# Altium schematic symbol library TemperatureController.SCHLIB: 83 symbols
Pins are listed as number, name and electrical type; pins without a type are passive.

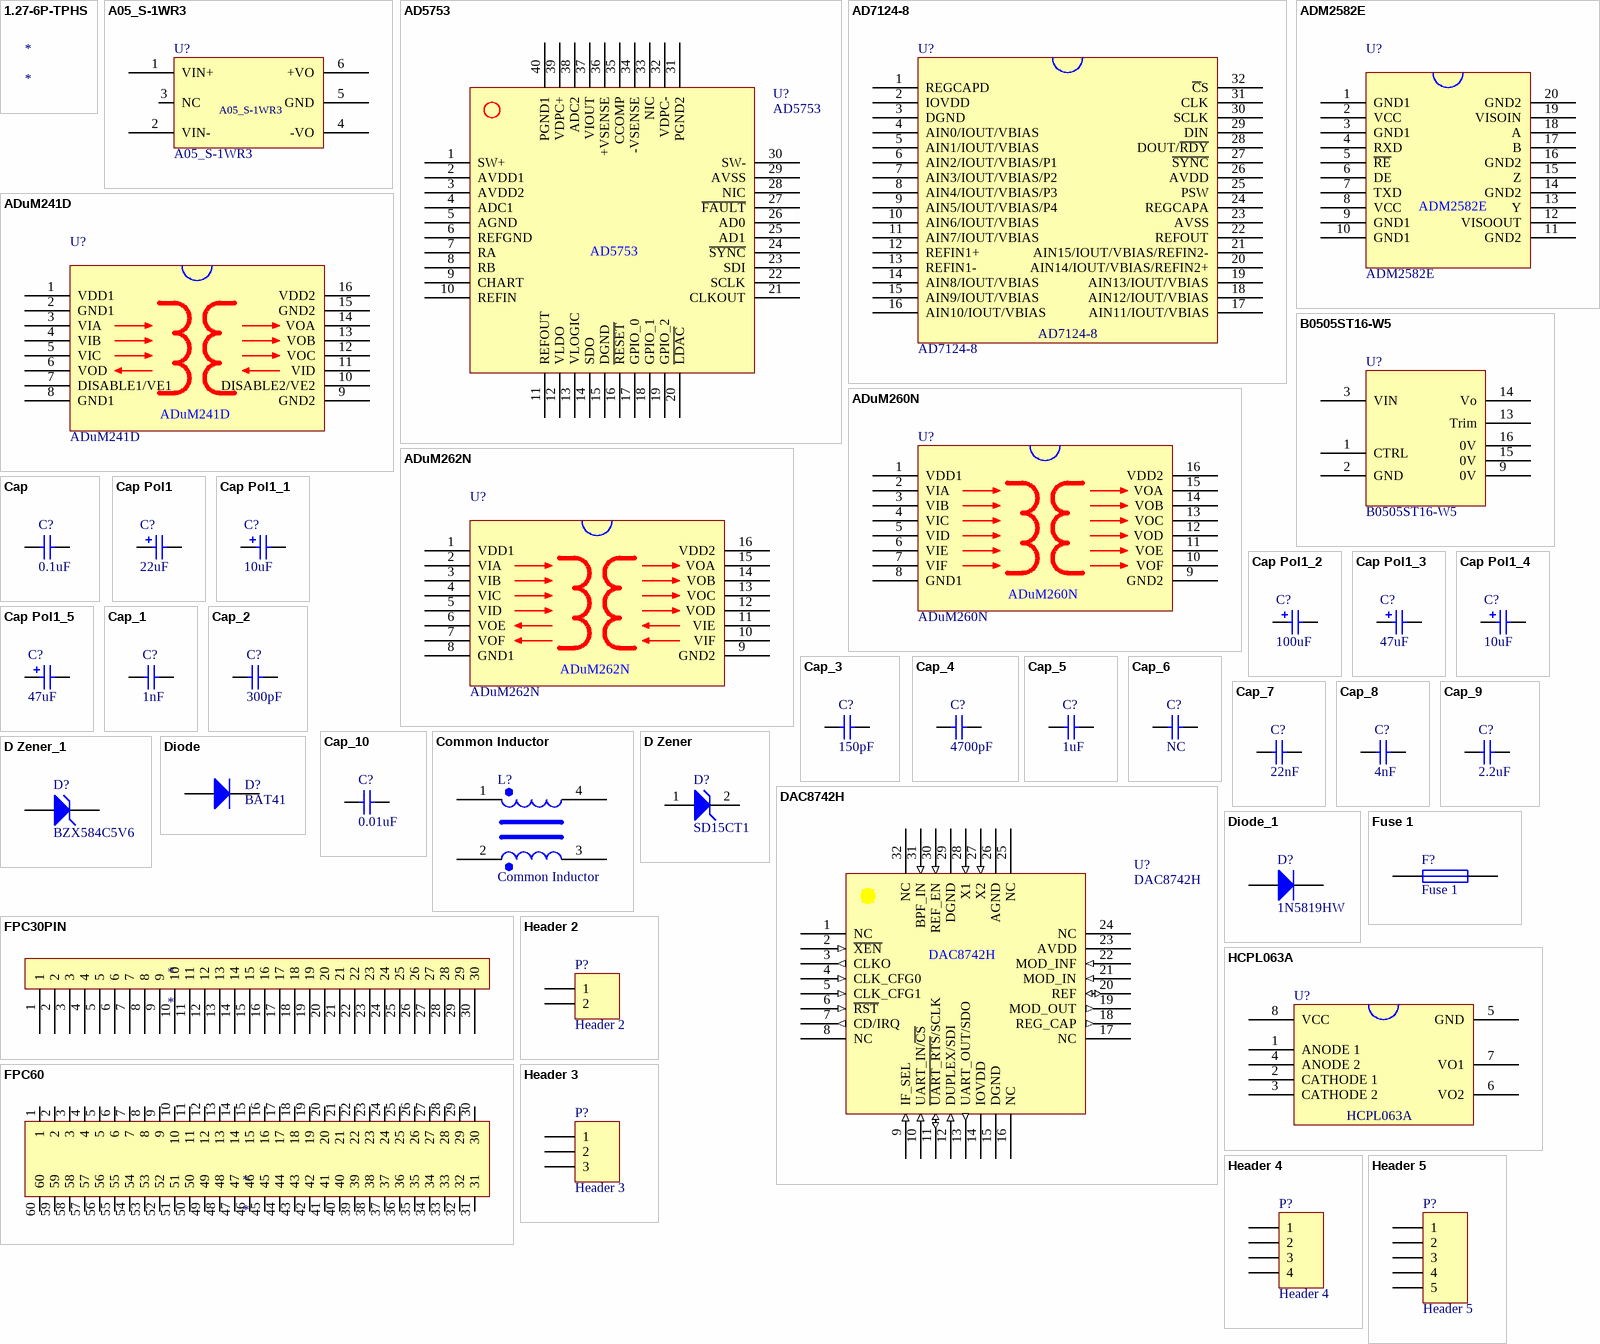
[diagram p0: symbols 1.27-6P-TPHS to Header 5]

## 1.27-6P-TPHS
designator *

## A05_S-1WR3
designator U?
footprint A_S-1WR3
pins: 1 VIN+, 2 VIN-, 3 NC, 4 -VO, 5 GND, 6 +VO

## AD5753
designator U?
footprint CP-40-15(QFN40) (QFN, 40-Leads, Body 6.00x6.00mm, Pitch 0.50mm, Thermal Pad 4.60x4.60mm, IPC Low Density)
pins: 1 SW+, 2 AVDD1, 3 AVDD2, 4 ADC1, 5 AGND, 6 REFGND, 7 RA, 8 RB, 9 CHART, 10 REFIN, 11 REFOUT, 12 VLDO, 13 VLOGIC, 14 SDO, 15 DGND, 16 ~{RESET}, 17 GPIO_0, 18 GPIO_1, 19 GPIO_2, 20 ~{LDAC}, 21 CLKOUT, 22 SCLK, 23 SDI, 24 ~{SYNC}, 25 AD1, 26 AD0, 27 ~{FAULT}, 28 NIC, 29 AVSS, 30 SW-, 31 PGND2, 32 VDPC-, 33 NIC, 34 -VSENSE, 35 CCOMP, 36 +VSENSE, 37 VIOUT, 38 ADC2, 39 VDPC+, 40 PGND1

## AD7124-8
designator U?
footprint TI-RHB32-3150X3150TP_V (QFN, 32-Leads, Body 5x5mm, Pitch 0.5mm, Thermal Pad 3.15x3.15mm)
pins: 1 REGCAPD, 2 IOVDD, 3 DGND, 4 AIN0/IOUT/VBIAS, 5 AIN1/IOUT/VBIAS, 6 AIN2/IOUT/VBIAS/P1, 7 AIN3/IOUT/VBIAS/P2, 8 AIN4/IOUT/VBIAS/P3, 9 AIN5/IOUT/VBIAS/P4, 10 AIN6/IOUT/VBIAS, 11 AIN7/IOUT/VBIAS, 12 REFIN1+, 13 REFIN1-, 14 AIN8/IOUT/VBIAS, 15 AIN9/IOUT/VBIAS, 16 AIN10/IOUT/VBIAS, 17 AIN11/IOUT/VBIAS, 18 AIN12/IOUT/VBIAS, 19 AIN13/IOUT/VBIAS, 20 AIN14/IOUT/VBIAS/REFIN2+, 21 AIN15/IOUT/VBIAS/REFIN2-, 22 REFOUT, 23 AVSS, 24 REGCAPA, 25 PSW, 26 AVDD, 27 ~{SYNC}, 28 DOUT/~{RDY}, 29 DIN, 30 SCLK, 31 CLK, 32 ~{C}S

## ADM2582E
designator U?
footprint SOIC-20-W
pins: 1 GND1, 2 VCC, 3 GND1, 4 RXD, 5 ~{RE}, 6 DE, 7 TXD, 8 VCC, 9 GND1, 10 GND1, 11 GND2, 12 VISOOUT, 13 Y, 14 GND2, 15 Z, 16 GND2, 17 B, 18 A, 19 VISOIN, 20 GND2

## ADuM241D
designator U?
footprint SOIC-16(RI-16-2)
pins: 1 VDD1, 2 GND1, 3 VIA, 4 VIB, 5 VIC, 6 VOD, 7 DISABLE1/VE1, 8 GND1, 9 GND2, 10 DISABLE2/VE2, 11 VID, 12 VOC, 13 VOB, 14 VOA, 15 GND2, 16 VDD2

## ADuM260N
designator U?
footprint SOIC-16(RI-16-2)
pins: 1 VDD1, 2 VIA, 3 VIB, 4 VIC, 5 VID, 6 VIE, 7 VIF, 8 GND1, 9 GND2, 10 VOF, 11 VOE, 12 VOD, 13 VOC, 14 VOB, 15 VOA, 16 VDD2

## ADuM262N
designator U?
footprint SOIC-16(RI-16-2)
pins: 1 VDD1, 2 VIA, 3 VIB, 4 VIC, 5 VID, 6 VOE, 7 VOF, 8 GND1, 9 GND2, 10 VIF, 11 VIE, 12 VOD, 13 VOC, 14 VOB, 15 VOA, 16 VDD2

## B0505ST16-W5
designator U?
footprint SOP16-1.27(V2) (金升阳2)
pins: 1 CTRL, 2 GND, 3 VIN, 9 0V, 13 Trim, 14 Vo, 15 0V, 16 0V

## Cap
designator C?, comment value 0.1uF  (hidden comment: CC0805MRX7R9BB104)
Capacitor
simulation model CAP (Capacitor)
signal-integrity model Cap
footprint 0805c
pins: 1, 2

## Cap Pol1
designator C?, comment value 22uF  (hidden comment: T494B226M006AHAUTO)
Polarized Capacitor (Radial); Published: 8-Jun-2000; LatestRevisionDate: 17-Jul-2002; LatestRevisionNote: Re-released for DXP Platform.; PackageReference: RB7.6-15; Publisher: Altium Limited; PackageDescription: Polarized Capacitor (Radial); 2 Leads
simulation model CAP (Capacitor)
signal-integrity model Cap Pol
footprint CB
pins: 1, 2
1 alternate drawing of the same symbol

## Cap Pol1_1
designator C?, comment value 10uF  (hidden comment: ECR1HQG100M-063007)
Polarized Capacitor (Radial); Published: 8-Jun-2000; LatestRevisionDate: 17-Jul-2002; LatestRevisionNote: Re-released for DXP Platform.; PackageReference: RB7.6-15; Publisher: Altium Limited; PackageDescription: Polarized Capacitor (Radial); 2 Leads
simulation model CAP (Capacitor)
signal-integrity model Cap Pol
footprint CE-6.3*11.5(-)
pins: 1, 2
1 alternate drawing of the same symbol

## Cap Pol1_2
designator C?, comment value 100uF  (hidden comment: T494B107M006AHAUTO)
Polarized Capacitor (Radial); Published: 8-Jun-2000; LatestRevisionDate: 17-Jul-2002; LatestRevisionNote: Re-released for DXP Platform.; PackageReference: RB7.6-15; Publisher: Altium Limited; PackageDescription: Polarized Capacitor (Radial); 2 Leads
simulation model CAP (Capacitor)
signal-integrity model Cap Pol
footprint CE-6.3*11.5(-)
pins: 1, 2
1 alternate drawing of the same symbol

## Cap Pol1_3
designator C?, comment value 47uF  (hidden comment: T494B476M010AHAUTO)
Polarized Capacitor (Radial); Published: 8-Jun-2000; LatestRevisionDate: 17-Jul-2002; LatestRevisionNote: Re-released for DXP Platform.; PackageReference: RB7.6-15; Publisher: Altium Limited; PackageDescription: Polarized Capacitor (Radial); 2 Leads
simulation model CAP (Capacitor)
signal-integrity model Cap Pol
footprint CE-5*11(-)
pins: 1, 2
1 alternate drawing of the same symbol

## Cap Pol1_4
designator C?, comment value 10uF  (hidden comment: T494B106M006AHAUTO)
Polarized Capacitor (Radial); Published: 8-Jun-2000; LatestRevisionDate: 17-Jul-2002; LatestRevisionNote: Re-released for DXP Platform.; PackageReference: RB7.6-15; Publisher: Altium Limited; PackageDescription: Polarized Capacitor (Radial); 2 Leads
simulation model CAP (Capacitor)
signal-integrity model Cap Pol
footprint 0805c
pins: 1, 2
1 alternate drawing of the same symbol

## Cap Pol1_5
designator C?, comment value 47uF  (hidden comment: T494B476K025ATAUTO)
Polarized Capacitor (Radial); Published: 8-Jun-2000; LatestRevisionDate: 17-Jul-2002; LatestRevisionNote: Re-released for DXP Platform.; PackageReference: RB7.6-15; Publisher: Altium Limited; PackageDescription: Polarized Capacitor (Radial); 2 Leads
simulation model CAP (Capacitor)
signal-integrity model Cap Pol
footprint CB
pins: 1, 2
1 alternate drawing of the same symbol

## Cap_1
designator C?  value 1nF
Capacitor; Published: 8-Jun-2000; LatestRevisionDate: 17-Jul-2002; LatestRevisionNote: Re-released for DXP Platform.; PackageReference: RAD-0.3; Publisher: Altium Limited; PackageDescription: Radial Cap, Thru-Hole; 2 Leads; 0.3 in Pin Spacing
simulation model CAP (Capacitor)
signal-integrity model Cap
footprint 0805c
pins: 1, 2

## Cap_2
designator C?  value 300pF
Capacitor; Published: 8-Jun-2000; LatestRevisionDate: 17-Jul-2002; LatestRevisionNote: Re-released for DXP Platform.; PackageReference: RAD-0.3; Publisher: Altium Limited; PackageDescription: Radial Cap, Thru-Hole; 2 Leads; 0.3 in Pin Spacing
simulation model CAP (Capacitor)
signal-integrity model Cap
footprint 0805c
pins: 1, 2

## Cap_3
designator C?  value 150pF
Capacitor; Published: 8-Jun-2000; LatestRevisionDate: 17-Jul-2002; LatestRevisionNote: Re-released for DXP Platform.; PackageReference: RAD-0.3; Publisher: Altium Limited; PackageDescription: Radial Cap, Thru-Hole; 2 Leads; 0.3 in Pin Spacing
simulation model CAP (Capacitor)
signal-integrity model Cap
footprint 0805c
pins: 1, 2

## Cap_4
designator C?  value 4700pF
Capacitor; Published: 8-Jun-2000; LatestRevisionDate: 17-Jul-2002; LatestRevisionNote: Re-released for DXP Platform.; PackageReference: RAD-0.3; Publisher: Altium Limited; PackageDescription: Radial Cap, Thru-Hole; 2 Leads; 0.3 in Pin Spacing
simulation model CAP (Capacitor)
signal-integrity model Cap
footprint 0805c
pins: 1, 2

## Cap_5
designator C?  value 1uF
Capacitor; Published: 8-Jun-2000; LatestRevisionDate: 17-Jul-2002; LatestRevisionNote: Re-released for DXP Platform.; PackageReference: RAD-0.3; Publisher: Altium Limited; PackageDescription: Radial Cap, Thru-Hole; 2 Leads; 0.3 in Pin Spacing
simulation model CAP (Capacitor)
signal-integrity model Cap
footprint 0805c
pins: 1, 2

## Cap_6
designator C?  value NC
Capacitor; Published: 8-Jun-2000; LatestRevisionDate: 17-Jul-2002; LatestRevisionNote: Re-released for DXP Platform.; PackageReference: RAD-0.3; Publisher: Altium Limited; PackageDescription: Radial Cap, Thru-Hole; 2 Leads; 0.3 in Pin Spacing
simulation model CAP (Capacitor)
signal-integrity model Cap
footprint 0805c
pins: 1, 2

## Cap_7
designator C?  value 22nF
Capacitor; Published: 8-Jun-2000; LatestRevisionDate: 17-Jul-2002; LatestRevisionNote: Re-released for DXP Platform.; PackageReference: RAD-0.3; Publisher: Altium Limited; PackageDescription: Radial Cap, Thru-Hole; 2 Leads; 0.3 in Pin Spacing
simulation model CAP (Capacitor)
signal-integrity model Cap
footprint 0805c
pins: 1, 2

## Cap_8
designator C?  value 4nF
Capacitor; Published: 8-Jun-2000; LatestRevisionDate: 17-Jul-2002; LatestRevisionNote: Re-released for DXP Platform.; PackageReference: RAD-0.3; Publisher: Altium Limited; PackageDescription: Radial Cap, Thru-Hole; 2 Leads; 0.3 in Pin Spacing
simulation model CAP (Capacitor)
signal-integrity model Cap
footprint 0805c
pins: 1, 2

## Cap_9
designator C?  value 2.2uF
Capacitor; Published: 8-Jun-2000; LatestRevisionDate: 17-Jul-2002; LatestRevisionNote: Re-released for DXP Platform.; PackageReference: RAD-0.3; Publisher: Altium Limited; PackageDescription: Radial Cap, Thru-Hole; 2 Leads; 0.3 in Pin Spacing
simulation model CAP (Capacitor)
signal-integrity model Cap
footprint 0805c
pins: 1, 2

## Cap_10
designator C?, comment value 0.01uF  (hidden comment: CC0805MRX7R9BB103)
Capacitor; Published: 8-Jun-2000; LatestRevisionDate: 17-Jul-2002; LatestRevisionNote: Re-released for DXP Platform.; PackageReference: RAD-0.3; Publisher: Altium Limited; PackageDescription: Radial Cap, Thru-Hole; 2 Leads; 0.3 in Pin Spacing
simulation model CAP (Capacitor)
signal-integrity model Cap
footprint 0805c
pins: 1, 2

## Common Inductor
designator L?
pins: 1, 2, 3, 4

## D Zener
designator D?, comment SD15CT1
Zener Diode; Published: 8-Jun-2000; LatestRevisionDate: 17-Jul-2002; LatestRevisionNote: Re-released for DXP Platform.; PackageReference: DIODE-0.7; Publisher: Altium Limited; PackageDescription: Diode, Thru-Hole; 2 Leads; 0.7 in Pin Spacing
simulation model ZENER (Diode)
signal-integrity model D Zener
footprint sod323
pins: 1 A, 2 K

## D Zener_1
designator D?, comment BZX584C5V6
Zener Diode; Published: 8-Jun-2000; LatestRevisionDate: 17-Jul-2002; LatestRevisionNote: Re-released for DXP Platform.; PackageReference: DIODE-0.7; Publisher: Altium Limited; PackageDescription: Diode, Thru-Hole; 2 Leads; 0.7 in Pin Spacing
footprint DIODE-0.7 (Diode, Thru-Hole; 2 Leads; 0.7 in Pin Spacing)
simulation model ZENER (Diode)
signal-integrity model D Zener
pins: 1 A, 2 K

## DAC8742H
designator U?
HART and FOUNDATION Fieldbus / PROFIBUS PA Modem
footprint S-PQFP-G32 (Footprint not found)
pins: 1 NC, 2 ~{XEN} (in), 3 CLKO (out), 4 CLK_CFG0 (in), 5 CLK_CFG1 (in), 6 ~{RST} (in), 7 CD/IRQ (out), 8 NC, 9 IF_SEL (in), 10 UART_IN/~{CS} (in), 11 ~{UART_RTS}/SCLK (io), 12 DUPLEX/SDI (in), 13 UART_OUT/SDO (out), 14 IOVDD (power), 15 DGND (power), 16 NC, 17 NC, 18 REG_CAP (out), 19 MOD_OUT (out), 20 REF (io), 21 MOD_IN (in), 22 MOD_INF (in), 23 AVDD (power), 24 NC, 25 NC, 26 AGND (power), 27 X2 (in), 28 X1 (in), 29 DGND (power), 30 REF_EN (in), 31 BPF_IN (in), 32 NC

## Diode
designator D?, comment BAT41
Default Diode; Published: 8-Jun-2000; LatestRevisionDate: 17-Jul-2002; LatestRevisionNote: Re-released for DXP Platform.; PackageVersion: Sep-1996; PackageReference: SMC; Publisher: Altium Limited; PackageDescription: DO-214-AB/SMC; 2 C-Bend Leads; Body 7.9 x 5.9 mm, inc. leads (LxW); Code_JEDEC: DO-214-AB
simulation model DIODE (Diode)
signal-integrity model Diode
footprint sod123
pins: 1 A, 2 K

## Diode_1
designator D?, comment 1N5819HW
Default Diode; Published: 8-Jun-2000; LatestRevisionDate: 17-Jul-2002; LatestRevisionNote: Re-released for DXP Platform.; PackageVersion: Sep-1996; PackageReference: SMC; Publisher: Altium Limited; PackageDescription: DO-214-AB/SMC; 2 C-Bend Leads; Body 7.9 x 5.9 mm, inc. leads (LxW); Code_JEDEC: DO-214-AB
simulation model DIODE (Diode)
signal-integrity model Diode
footprint sod123
pins: 1 A, 2 K

## FPC30PIN
designator *
pins: 1, 2, 3, 4, 5, 6, 7, 8, 9, 10, 11, 12, 13, 14, 15, 16, 17, 18, 19, 20, 21, 22, 23, 24, 25, 26, 27, 28, 29, 30

## FPC60
designator *
footprint FPC60
pins: 1, 2, 3, 4, 5, 6, 7, 8, 9, 10, 11, 12, 13, 14, 15, 16, 17, 18, 19, 20, 21, 22, 23, 24, 25, 26, 27, 28, 29, 30, 31, 32, 33, 34, 35, 36, 37, 38, 39, 40, 41, 42, 43, 44, 45, 46, 47, 48, 49, 50, 51, 52, 53, 54, 55, 56, 57, 58, 59, 60

## Fuse 1
designator F?
Fuse; Published: 8-Jun-2000; LatestRevisionDate: 17-Jul-2002; LatestRevisionNote: Re-released for DXP Platform.; PackageReference: PIN-W2/E2.8; Publisher: Altium Limited; PackageDescription: Thru-Hole; 2 Leads
simulation model FUSE (Spice Subcircuit)
footprint 0805r
pins: 1, 2

## HCPL063A
designator U?  (value not drawn)
footprint SOIC-8
pins: 1 ANODE 1, 2 CATHODE 1, 3 CATHODE 2, 4 ANODE 2, 5 GND, 6 VO2, 7 VO1, 8 VCC

## Header 2
designator P?
Header, 2-Pin; LatestRevisionDate: 17-Jul-2002; LatestRevisionNote: Re-released for DXP Platform.; Publisher: Altium Limited
footprint HDR1X2 (Connector; Header; 2 Position)
signal-integrity model Connector
pins: 1, 2

## Header 3
designator P?
Header, 3-Pin; LatestRevisionDate: 17-Jul-2002; LatestRevisionNote: Re-released for DXP Platform.; Publisher: Altium Limited
footprint HDR1X3 (Connector; Header; 3 Position)
signal-integrity model Connector
pins: 1, 2, 3

## Header 4
designator P?
Header, 4-Pin; LatestRevisionDate: 17-Jul-2002; LatestRevisionNote: Re-released for DXP Platform.; Publisher: Altium Limited
footprint HDR1X4 (Connector; Header; 4 Position)
signal-integrity model Connector
pins: 1, 2, 3, 4

## Header 5
designator P?
Header, 5-Pin; LatestRevisionDate: 17-Jul-2002; LatestRevisionNote: Re-released for DXP Platform.; Publisher: Altium Limited
footprint HDR1X5 (Connector; Header; 5 Position)
signal-integrity model Connector
pins: 1, 2, 3, 4, 5

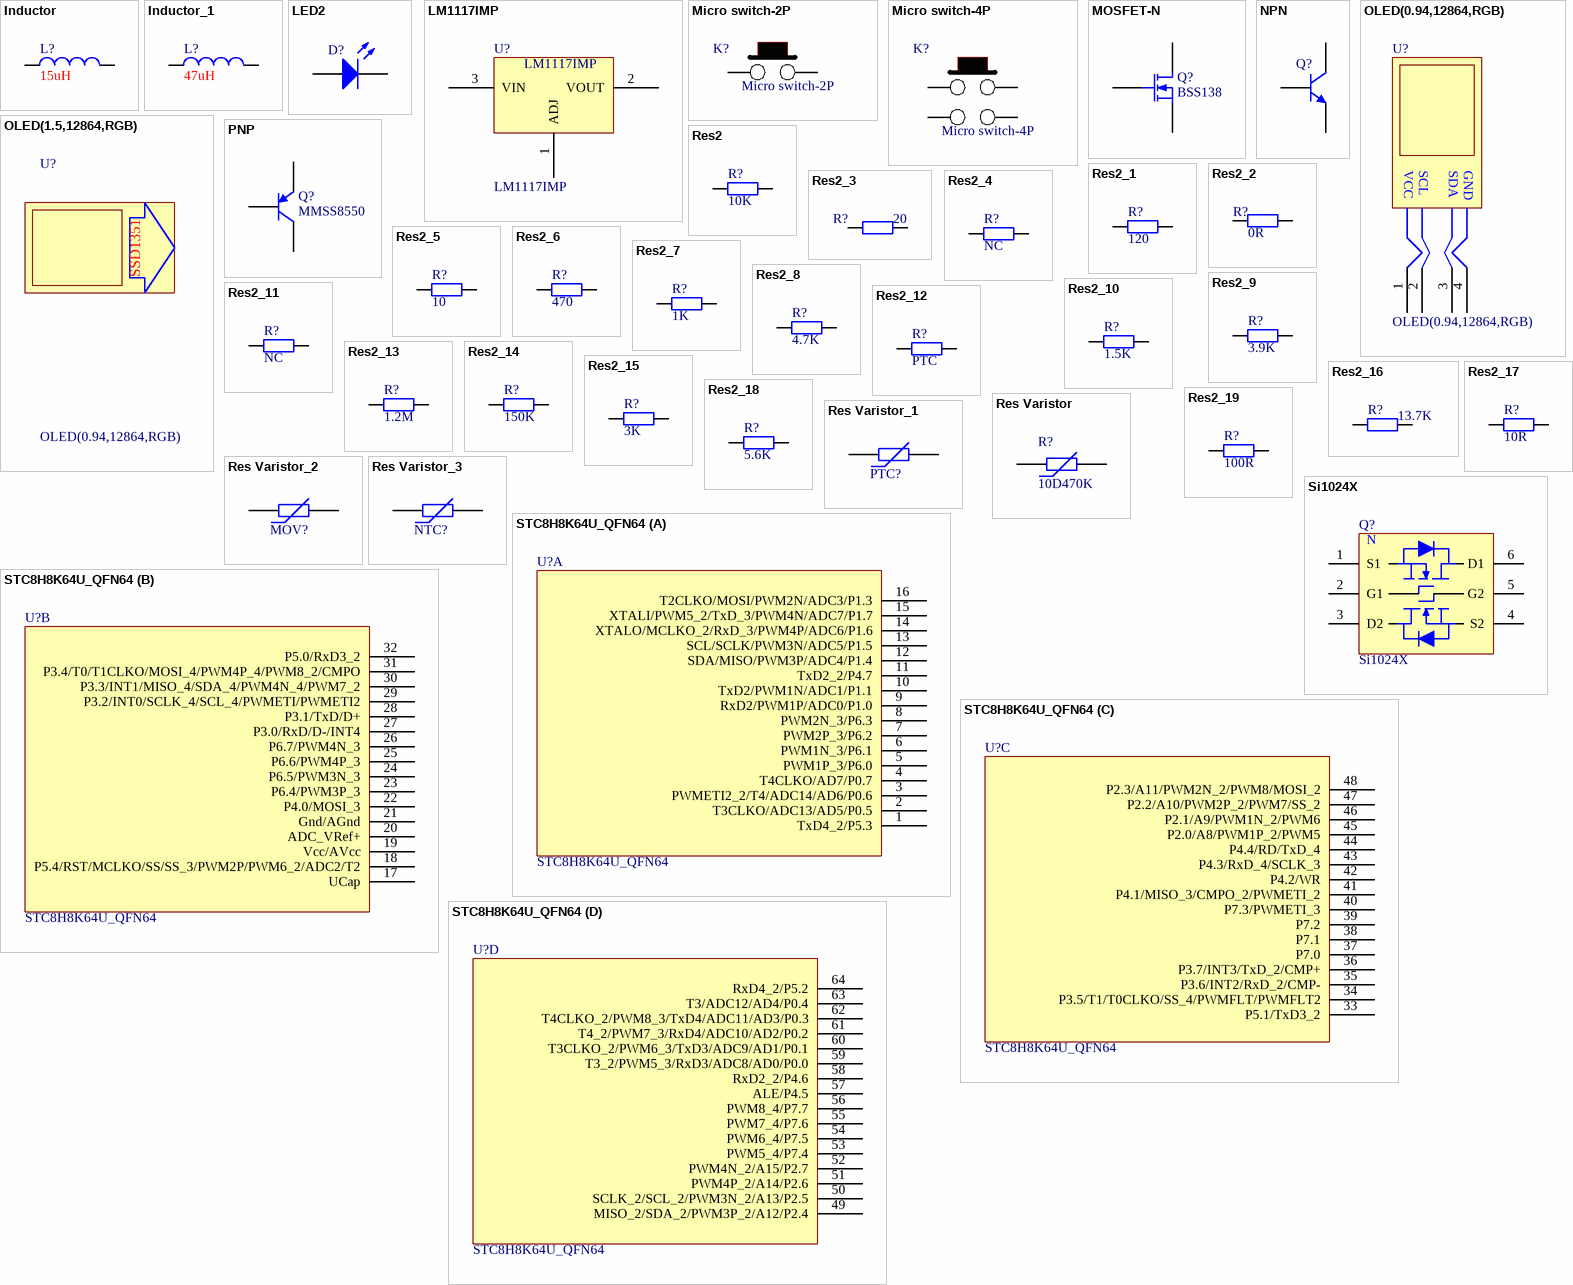
[diagram p1: symbols Inductor to STC8H8K64U_QFN64]

## Inductor
designator L?, comment value 15uH  (hidden comment: VLS4012HBX-150M)
simulation model INDUCTOR (Inductor)
signal-integrity model Inductor
footprint VSL4012
pins: 1, 2

## Inductor_1
designator L?, comment value 47uH  (hidden comment: VLS4012HBX-150M)
simulation model INDUCTOR (Inductor)
signal-integrity model Inductor
footprint 0805r
pins: 1, 2

## LED2
designator D?, comment 150080GS75000  (value not drawn)
Typical RED, GREEN, YELLOW, AMBER GaAs LED; Published: 8-Jun-2000; LatestRevisionDate: 17-Jul-2002; LatestRevisionNote: Re-released for DXP Platform.; PackageVersion: Feb-2002; PackageReference: 3.2X1.6X1.1; Publisher: Altium Limited; PackageDescription: SM LED; 2 Flat Leads
simulation model LED2 (Diode)
footprint LEDΦ3.0
pins: 1 A, 2 K

## LM1117IMP
designator U?
pins: 1 ADJ, 2 VOUT, 3 VIN, 4 TAB hidden

## Micro switch-2P
designator K?
pins: 1, 2

## Micro switch-4P
designator K?
pins: 1, 2, 3, 4

## MOSFET-N
designator Q?, comment BSS138
N-Channel MOSFET; Published: 8-Jun-2000; LatestRevisionDate: 17-Jul-2002; LatestRevisionNote: Re-released for DXP Platform.; PackageVersion: 1995/1996; PackageReference: E3; Publisher: Altium Limited; PackageDescription: TO, Flat Index; 3 In-Line, Axial Leads; Body Dia. 4.6mm; Lead Dia. 0.5 mm (max)
footprint E3 (TO, Flat Index; 3 In-Line, Axial Leads; Body Dia. 4.6mm; Lead Dia. 0.5 mm (max))
simulation model NMOS (MOSFET-N)
pins: 1 D, 2 G, 3 S

## NPN
designator Q?, comment MMSS8050  (value not drawn)
NPN Bipolar Transistor; Published: 8-Jun-2000; LatestRevisionDate: 17-Jul-2002; LatestRevisionNote: Re-released for DXP Platform.; PackageReference: TO-226-AA; Publisher: Altium Limited; PackageDescription: TO, Flat Index; 3 In-Line, Axial Leads; Body Dia. 4.8mm; Leads 0.55 x 0.51 mm (max); Code_JEDEC: TO-226-AA
simulation model NPN
signal-integrity model NPN
footprint SOT-23
pins: 1 C, 2 B, 3 E

## OLED(0.94,12864,RGB)
designator U?
pins: 1 VCC, 2 SCL, 3 SDA, 4 GND

## OLED(1.5,12864,RGB)
designator U?, comment OLED(0.94,12864,RGB)
text: SSD1351

## PNP
designator Q?, comment MMSS8550
PNP Bipolar Transistor; Published: 8-Jun-2000; LatestRevisionDate: 29-May-2009; LatestRevisionNote: IPC-7351 Footprint Added.; PackageVersion: Aug-1999; PackageReference: SOT-23B; Publisher: Altium Limited; PackageDescription: 3-Pin SOT-23 Package 0.95 mm Pitch, 2.4 mm Lead Span
footprint SOT-23B_L (SOT23, 3-Leads, Body 2.9x1.3mm, Pitch 0.95mm, Lead Span 2.4mm, IPC High Density)
footprint SOT-23B_M (SOT23, 3-Leads, Body 2.9x1.3mm, Pitch 0.95mm, Lead Span 2.4mm, IPC Low Density)
simulation model PNP
signal-integrity model PNP
footprint SOT-23-BJT
pins: 1 C, 2 B, 3 E

## Res2
designator R?, comment value 10K  (hidden comment: RC0805JR-0710KL)
Resistor; Published: 8-Jun-2000; LatestRevisionDate: 17-Jul-2002; LatestRevisionNote: Re-released for DXP Platform.; PackageReference: AXIAL-0.4; Publisher: Altium Limited; PackageDescription: Axial Device, Thru-Hole; 2 Leads; 0.4 in Pin Spacing
simulation model RESISTOR (Resistor)
signal-integrity model Res
footprint 0805R
pins: 1, 2

## Res2_1
designator R?, comment value 120  (hidden comment: RC0805JR-07120RL)
Resistor; Published: 8-Jun-2000; LatestRevisionDate: 17-Jul-2002; LatestRevisionNote: Re-released for DXP Platform.; PackageReference: AXIAL-0.4; Publisher: Altium Limited; PackageDescription: Axial Device, Thru-Hole; 2 Leads; 0.4 in Pin Spacing
simulation model RESISTOR (Resistor)
signal-integrity model Res
footprint 0805R
pins: 1, 2

## Res2_2
designator R?, comment value 0R  (hidden comment: RC0805JR-000KL)
Resistor; Published: 8-Jun-2000; LatestRevisionDate: 17-Jul-2002; LatestRevisionNote: Re-released for DXP Platform.; PackageReference: AXIAL-0.4; Publisher: Altium Limited; PackageDescription: Axial Device, Thru-Hole; 2 Leads; 0.4 in Pin Spacing
simulation model RESISTOR (Resistor)
signal-integrity model Res
footprint 0805R
pins: 1, 2

## Res2_3
designator R?, comment value 20  (hidden comment: RC0805JR-0720RL)
Resistor; Published: 8-Jun-2000; LatestRevisionDate: 17-Jul-2002; LatestRevisionNote: Re-released for DXP Platform.; PackageReference: AXIAL-0.4; Publisher: Altium Limited; PackageDescription: Axial Device, Thru-Hole; 2 Leads; 0.4 in Pin Spacing
simulation model RESISTOR (Resistor)
signal-integrity model Res
footprint 0805R
pins: 1, 2

## Res2_4
designator R?, comment value NC  (hidden comment: RC0805JR-0710KL)
Resistor; Published: 8-Jun-2000; LatestRevisionDate: 17-Jul-2002; LatestRevisionNote: Re-released for DXP Platform.; PackageReference: AXIAL-0.4; Publisher: Altium Limited; PackageDescription: Axial Device, Thru-Hole; 2 Leads; 0.4 in Pin Spacing
simulation model RESISTOR (Resistor)
signal-integrity model Res
footprint 0805R
pins: 1, 2

## Res2_5
designator R?, comment value 10  (hidden comment: PNP-200KJBJ26-10R)
Resistor; Published: 8-Jun-2000; LatestRevisionDate: 17-Jul-2002; LatestRevisionNote: Re-released for DXP Platform.; PackageReference: AXIAL-0.4; Publisher: Altium Limited; PackageDescription: Axial Device, Thru-Hole; 2 Leads; 0.4 in Pin Spacing
simulation model RESISTOR (Resistor)
signal-integrity model Res
footprint 0805R
pins: 1, 2

## Res2_6
designator R?, comment value 470  (hidden comment: RC0805JR-07470RL)
Resistor; Published: 8-Jun-2000; LatestRevisionDate: 17-Jul-2002; LatestRevisionNote: Re-released for DXP Platform.; PackageReference: AXIAL-0.4; Publisher: Altium Limited; PackageDescription: Axial Device, Thru-Hole; 2 Leads; 0.4 in Pin Spacing
simulation model RESISTOR (Resistor)
signal-integrity model Res
footprint 0805R
pins: 1, 2

## Res2_7
designator R?, comment value 1K  (hidden comment: RC0805JR-071KL)
Resistor; Published: 8-Jun-2000; LatestRevisionDate: 17-Jul-2002; LatestRevisionNote: Re-released for DXP Platform.; PackageReference: AXIAL-0.4; Publisher: Altium Limited; PackageDescription: Axial Device, Thru-Hole; 2 Leads; 0.4 in Pin Spacing
simulation model RESISTOR (Resistor)
signal-integrity model Res
footprint 0805R
pins: 1, 2

## Res2_8
designator R?, comment value 4.7K  (hidden comment: RC0805JR-074700RL)
Resistor; Published: 8-Jun-2000; LatestRevisionDate: 17-Jul-2002; LatestRevisionNote: Re-released for DXP Platform.; PackageReference: AXIAL-0.4; Publisher: Altium Limited; PackageDescription: Axial Device, Thru-Hole; 2 Leads; 0.4 in Pin Spacing
simulation model RESISTOR (Resistor)
signal-integrity model Res
footprint 0805R
pins: 1, 2

## Res2_9
designator R?  value 3.9K
Resistor; Published: 8-Jun-2000; LatestRevisionDate: 17-Jul-2002; LatestRevisionNote: Re-released for DXP Platform.; PackageReference: AXIAL-0.4; Publisher: Altium Limited; PackageDescription: Axial Device, Thru-Hole; 2 Leads; 0.4 in Pin Spacing
simulation model RESISTOR (Resistor)
signal-integrity model Res
footprint 0805R
pins: 1, 2

## Res2_10
designator R?  value 1.5K
Resistor; Published: 8-Jun-2000; LatestRevisionDate: 17-Jul-2002; LatestRevisionNote: Re-released for DXP Platform.; PackageReference: AXIAL-0.4; Publisher: Altium Limited; PackageDescription: Axial Device, Thru-Hole; 2 Leads; 0.4 in Pin Spacing
simulation model RESISTOR (Resistor)
signal-integrity model Res
footprint 0805R
pins: 1, 2

## Res2_11
designator R?  value NC
Resistor; Published: 8-Jun-2000; LatestRevisionDate: 17-Jul-2002; LatestRevisionNote: Re-released for DXP Platform.; PackageReference: AXIAL-0.4; Publisher: Altium Limited; PackageDescription: Axial Device, Thru-Hole; 2 Leads; 0.4 in Pin Spacing
simulation model RESISTOR (Resistor)
signal-integrity model Res
footprint 0805R
pins: 1, 2

## Res2_12
designator R?, comment value PTC  (hidden comment: 0805L075)
Resistor; Published: 8-Jun-2000; LatestRevisionDate: 17-Jul-2002; LatestRevisionNote: Re-released for DXP Platform.; PackageReference: AXIAL-0.4; Publisher: Altium Limited; PackageDescription: Axial Device, Thru-Hole; 2 Leads; 0.4 in Pin Spacing
simulation model RESISTOR (Resistor)
signal-integrity model Res
footprint 0805R
pins: 1, 2

## Res2_13
designator R?  value 1.2M
Resistor; Published: 8-Jun-2000; LatestRevisionDate: 17-Jul-2002; LatestRevisionNote: Re-released for DXP Platform.; PackageReference: AXIAL-0.4; Publisher: Altium Limited; PackageDescription: Axial Device, Thru-Hole; 2 Leads; 0.4 in Pin Spacing
simulation model RESISTOR (Resistor)
signal-integrity model Res
footprint 0805R
pins: 1, 2

## Res2_14
designator R?  value 150K
Resistor; Published: 8-Jun-2000; LatestRevisionDate: 17-Jul-2002; LatestRevisionNote: Re-released for DXP Platform.; PackageReference: AXIAL-0.4; Publisher: Altium Limited; PackageDescription: Axial Device, Thru-Hole; 2 Leads; 0.4 in Pin Spacing
simulation model RESISTOR (Resistor)
signal-integrity model Res
footprint 0805R
pins: 1, 2

## Res2_15
designator R?, comment value 3K  (hidden comment: RC0805JR-073KL)
Resistor; Published: 8-Jun-2000; LatestRevisionDate: 17-Jul-2002; LatestRevisionNote: Re-released for DXP Platform.; PackageReference: AXIAL-0.4; Publisher: Altium Limited; PackageDescription: Axial Device, Thru-Hole; 2 Leads; 0.4 in Pin Spacing
simulation model RESISTOR (Resistor)
signal-integrity model Res
footprint 0805R
pins: 1, 2

## Res2_16
designator R?, comment value 13.7K  (hidden comment: RC0805JR-073KL)
Resistor; Published: 8-Jun-2000; LatestRevisionDate: 17-Jul-2002; LatestRevisionNote: Re-released for DXP Platform.; PackageReference: AXIAL-0.4; Publisher: Altium Limited; PackageDescription: Axial Device, Thru-Hole; 2 Leads; 0.4 in Pin Spacing
simulation model RESISTOR (Resistor)
signal-integrity model Res
footprint 0805R
pins: 1, 2

## Res2_17
designator R?  value 10R
Resistor; Published: 8-Jun-2000; LatestRevisionDate: 17-Jul-2002; LatestRevisionNote: Re-released for DXP Platform.; PackageReference: AXIAL-0.4; Publisher: Altium Limited; PackageDescription: Axial Device, Thru-Hole; 2 Leads; 0.4 in Pin Spacing
simulation model RESISTOR (Resistor)
signal-integrity model Res
footprint 0805R
pins: 1, 2

## Res2_18
designator R?, comment value 5.6K  (hidden comment: RC0805JR-075600RL)
Resistor; Published: 8-Jun-2000; LatestRevisionDate: 17-Jul-2002; LatestRevisionNote: Re-released for DXP Platform.; PackageReference: AXIAL-0.4; Publisher: Altium Limited; PackageDescription: Axial Device, Thru-Hole; 2 Leads; 0.4 in Pin Spacing
simulation model RESISTOR (Resistor)
signal-integrity model Res
footprint 0805R
pins: 1, 2

## Res2_19
designator R?, comment value 100R  (hidden comment: RC0805JR-07100RL)
Resistor; Published: 8-Jun-2000; LatestRevisionDate: 17-Jul-2002; LatestRevisionNote: Re-released for DXP Platform.; PackageReference: AXIAL-0.4; Publisher: Altium Limited; PackageDescription: Axial Device, Thru-Hole; 2 Leads; 0.4 in Pin Spacing
simulation model RESISTOR (Resistor)
signal-integrity model Res
footprint 0805R
pins: 1, 2

## Res Varistor
designator R?, comment 10D470K
Varistor (Voltage-Sensitive Resistor); Published: 24-Mar-1999; LatestRevisionDate: 29-May-2009; LatestRevisionNote: IPC-7351 Footprint Added.; PackageVersion: Mar-2003; PackageReference: 6-0805; Publisher: Altium Limited; PackageDescription: Chip Resistor 0805 Case Size; Code_IPC: RESC2012
footprint 10D470K
pins: 1, 2

## Res Varistor_1
designator PTC?, comment NTCS0805E3103JHT  (value not drawn)
Published: 24-Mar-1999; LatestRevisionDate: 29-May-2009; LatestRevisionNote: IPC-7351 Footprint Added.; PackageVersion: Mar-2003; PackageReference: 6-0805; Publisher: Altium Limited; PackageDescription: Chip Resistor 0805 Case Size; Code_IPC: RESC2012
footprint 6-0805_L (Chip Resistor, Body 2.0x1.2mm, IPC High Density)
footprint 6-0805_M (Chip Resistor, Body 2.0x1.2mm, IPC Low Density)
footprint 0805r
pins: 1, 2

## Res Varistor_2
designator MOV?
Published: 24-Mar-1999; LatestRevisionDate: 29-May-2009; LatestRevisionNote: IPC-7351 Footprint Added.; PackageVersion: Mar-2003; PackageReference: 6-0805; Publisher: Altium Limited; PackageDescription: Chip Resistor 0805 Case Size; Code_IPC: RESC2012
footprint 6-0805_L (Chip Resistor, Body 2.0x1.2mm, IPC High Density)
footprint 6-0805_M (Chip Resistor, Body 2.0x1.2mm, IPC Low Density)
footprint 0805r
pins: 1, 2

## Res Varistor_3
designator NTC?, comment NTCS0805E3103JHT  (value not drawn)
Varistor (Voltage-Sensitive Resistor); Published: 24-Mar-1999; LatestRevisionDate: 29-May-2009; LatestRevisionNote: IPC-7351 Footprint Added.; PackageVersion: Mar-2003; PackageReference: 6-0805; Publisher: Altium Limited; PackageDescription: Chip Resistor 0805 Case Size; Code_IPC: RESC2012
footprint 6-0805_L (Chip Resistor, Body 2.0x1.2mm, IPC High Density)
footprint 6-0805_M (Chip Resistor, Body 2.0x1.2mm, IPC Low Density)
footprint 0805r
pins: 1, 2

## Si1024X
designator Q?
footprint SOT563
pins: 1 S1, 2 G1, 3 D2, 4 S2, 5 G2, 6 D1
text: N

## STC8H8K64U_QFN64
designator U?
footprint LQFP64S(12x12)
part A pins: 1 TxD4_2/P5.3, 2 T3CLKO/ADC13/AD5/P0.5, 3 PWMETI2_2/T4/ADC14/AD6/P0.6, 4 T4CLKO/AD7/P0.7, 5 PWM1P_3/P6.0, 6 PWM1N_3/P6.1, 7 PWM2P_3/P6.2, 8 PWM2N_3/P6.3, 9 RxD2/PWM1P/ADC0/P1.0, 10 TxD2/PWM1N/ADC1/P1.1, 11 TxD2_2/P4.7, 12 SDA/MISO/PWM3P/ADC4/P1.4, 13 SCL/SCLK/PWM3N/ADC5/P1.5, 14 XTALO/MCLKO_2/RxD_3/PWM4P/ADC6/P1.6, 15 XTALI/PWM5_2/TxD_3/PWM4N/ADC7/P1.7, 16 T2CLKO/MOSI/PWM2N/ADC3/P1.3
part B pins: 17 UCap, 18 P5.4/RST/MCLKO/SS/SS_3/PWM2P/PWM6_2/ADC2/T2, 19 Vcc/AVcc, 20 ADC_VRef+, 21 Gnd/AGnd, 22 P4.0/MOSI_3, 23 P6.4/PWM3P_3, 24 P6.5/PWM3N_3, 25 P6.6/PWM4P_3, 26 P6.7/PWM4N_3, 27 P3.0/RxD/D-/INT4, 28 P3.1/TxD/D+, 29 P3.2/INT0/SCLK_4/SCL_4/PWMETI/PWMETI2, 30 P3.3/INT1/MISO_4/SDA_4/PWM4N_4/PWM7_2, 31 P3.4/T0/T1CLKO/MOSI_4/PWM4P_4/PWM8_2/CMPO, 32 P5.0/RxD3_2
part C pins: 33 P5.1/TxD3_2, 34 P3.5/T1/T0CLKO/SS_4/PWMFLT/PWMFLT2, 35 P3.6/INT2/RxD_2/CMP-, 36 P3.7/INT3/TxD_2/CMP+, 37 P7.0, 38 P7.1, 39 P7.2, 40 P7.3/PWMETI_3, 41 P4.1/MISO_3/CMPO_2/PWMETI_2, 42 P4.2/WR, 43 P4.3/RxD_4/SCLK_3, 44 P4.4/RD/TxD_4, 45 P2.0/A8/PWM1P_2/PWM5, 46 P2.1/A9/PWM1N_2/PWM6, 47 P2.2/A10/PWM2P_2/PWM7/SS_2, 48 P2.3/A11/PWM2N_2/PWM8/MOSI_2
part D pins: 49 MISO_2/SDA_2/PWM3P_2/A12/P2.4, 50 SCLK_2/SCL_2/PWM3N_2/A13/P2.5, 51 PWM4P_2/A14/P2.6, 52 PWM4N_2/A15/P2.7, 53 PWM5_4/P7.4, 54 PWM6_4/P7.5, 55 PWM7_4/P7.6, 56 PWM8_4/P7.7, 57 ALE/P4.5, 58 RxD2_2/P4.6, 59 T3_2/PWM5_3/RxD3/ADC8/AD0/P0.0, 60 T3CLKO_2/PWM6_3/TxD3/ADC9/AD1/P0.1, 61 T4_2/PWM7_3/RxD4/ADC10/AD2/P0.2, 62 T4CLKO_2/PWM8_3/TxD4/ADC11/AD3/P0.3, 63 T3/ADC12/AD4/P0.4, 64 RxD4_2/P5.2

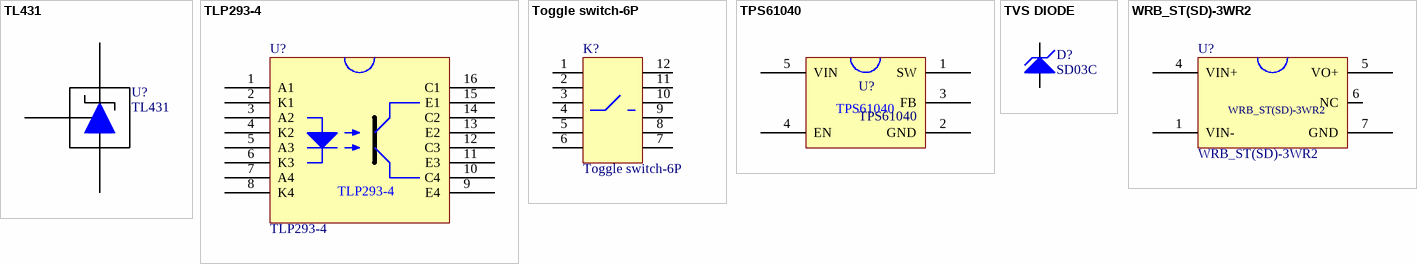
[diagram p2: symbols TL431 to WRB_ST(SD)-3WR2]

## TL431
designator U?
footprint SOT-23-3
pins: 1 CATHODE, 2 REF, 3 ANODE

## TLP293-4
designator U?
footprint SO-16
pins: 1 A1, 2 K1, 3 A2, 4 K2, 5 A3, 6 K3, 7 A4, 8 K4, 9 E4, 10 C4, 11 E3, 12 C3, 13 E2, 14 C2, 15 E1, 16 C1

## Toggle switch-6P
designator K?
pins: 1, 2, 3, 4, 5, 6, 7, 8, 9, 10, 11, 12

## TPS61040
designator U?
BOOST Converter
pins: 1 SW, 2 GND, 3 FB, 4 EN, 5 VIN

## TVS DIODE
designator D?, comment SD03C
footprint sod323
pins: 1 ANODE, 2 CATHODE

## WRB_ST(SD)-3WR2
designator U?
footprint WRB_SD-3WR2 (金升阳)
pins: 1 VIN-, 4 VIN+, 5 VO+, 6 NC, 7 GND